# Altium schematic symbol library stm32_main_board.SchLib: 4 symbols
Pins are listed as number, name and electrical type; pins without a type are passive.

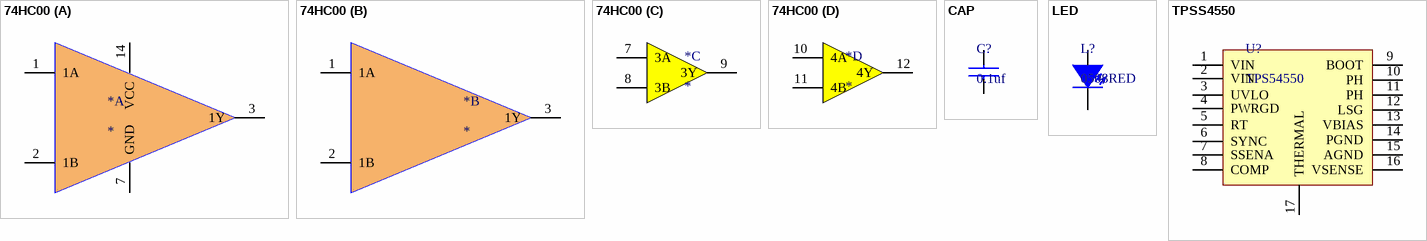
[diagram p0: symbols 74HC00 to TPSS4550]

## 74HC00
designator *
part A pins: 1 1A, 2 1B, 3 1Y, 7 GND, 14 VCC
part B pins: 1 1A, 2 1B, 3 1Y
part C pins: 7 3A, 8 3B, 9 3Y
part D pins: 10 4A, 11 4B, 12 4Y

## CAP
designator C?, comment 0.1uf
footprint 0603C (Footprint not found)
pins: 0, 1

## LED
designator L?, comment 0508RED
footprint 0508RED (Footprint not found)
pins: 2, 3

## TPSS4550
designator U?, comment TPS54550
footprint TPS54550 (Footprint not found)
pins: 1 VIN, 2 VIN, 3 UVLO, 4 PWRGD, 5 RT, 6 SYNC, 7 SSENA, 8 COMP, 9 BOOT, 10 PH, 11 PH, 12 LSG, 13 VBIAS, 14 PGND, 15 AGND, 16 VSENSE, 17 THERMAL